# Altium footprint library T-Type Converter.PcbLib: 34 footprints (part 2 of 3)
Each footprint in its own frame and in the unit in brackets; x right, y up, seen from the top. Pads: shape width x height; smd on the part's side, far side on the other; paste and mask are expansions set on the pad; w line width, h text height; cw(c..) or ccw(c..) is an arc to the next point about the centre after c.
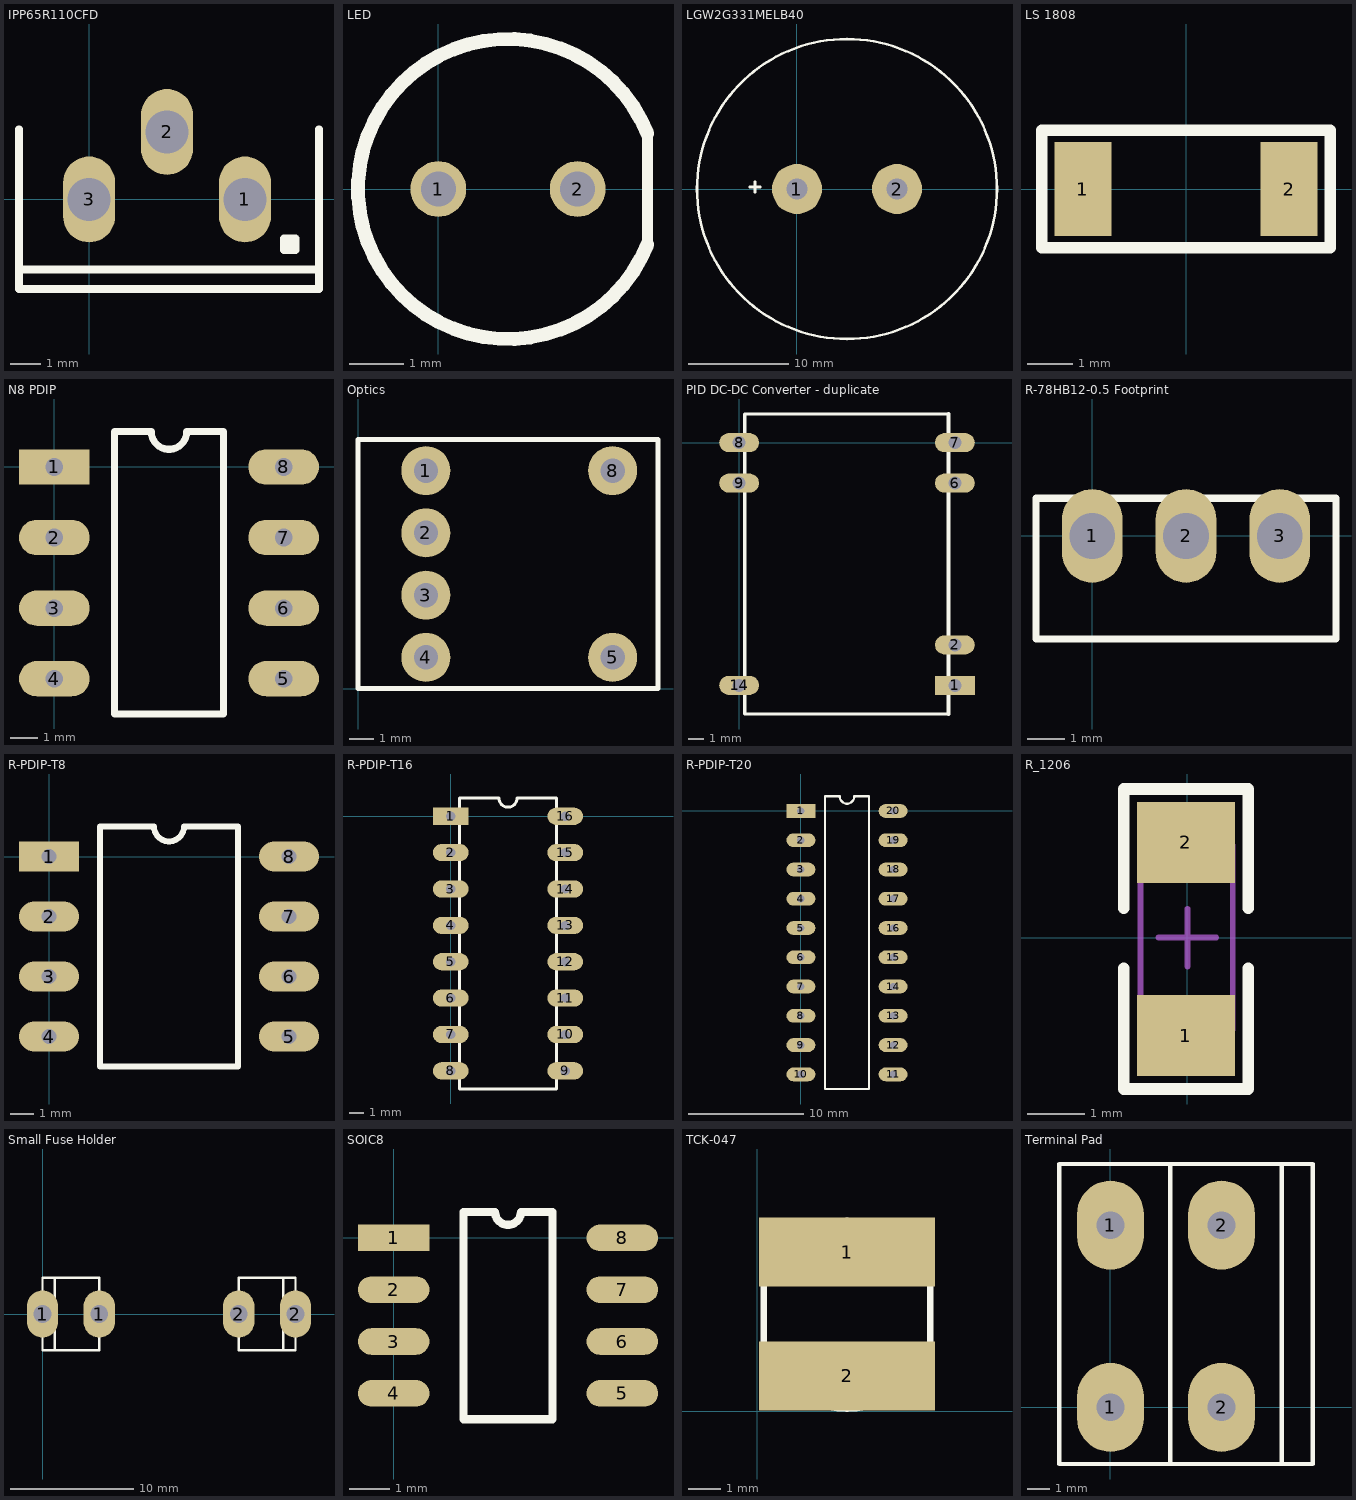
[diagram p1: the footprints below, top view; thin cyan lines are the x and y axes]

## IPP65R110CFD [mm]
pads (3):
  oval 1.7x2.8 hole 1.4: 1(5.08,0) 2(2.54,2.2) 3(0,0)
Top Overlay:
  lines w0.254: -2.286,-2.286 7.493,-2.286 ; -2.286,2.286 -2.286,-1.778 -2.286,-2.921 7.493,-2.921 7.493,-1.651 7.493,2.286 ; 6.35,-1.27 6.731,-1.27 6.731,-1.651 ; 6.35,-1.27 6.35,-1.651 6.731,-1.651 ; 6.35,-1.27 6.604,-1.524 6.731,-1.651

## LED [mil] "LED"
pads (2):
  round 40 hole 25: 1(0,0) 2(100,0)
Top Overlay:
  lines w7.87: 150,-40 150,40
  lines w10: 150,-40 cw(c50,0) 150,40

## LGW2G331MELB40 [mm] "Capacitor"
height 40
pads (2):
  round 5 hole 2.108: 1(0,0) 2(10,0)
Top Overlay:
  circle w0.254: c5,0 r15
  lines w0.254: -4.708,0.2 -3.692,0.2 ; -4.2,-0.308 -4.2,0.708

## LS 1808 [mil]
pads (2):
  rect 50x82 smd: 1(-90,0) 2(90,0)
Top Overlay:
  lines w10: -125.98,-51.18 -125.98,0 -125.98,51.18 125.98,51.18 125.98,-51.18 -125.98,-51.18

## N8 PDIP [mil]
pads (8):
  rect 100x50 hole 25: 1(0,0)
  oval 100x50 hole 25: 2(0,-100) 3(0,-200) 4(0,-300) 5(325,-300) 6(325,-200) 7(325,-100) 8(325,0)
Top Overlay:
  lines w10: 85,-350 85,50 137.5,50 ccw(c162.5,50) 187.5,50 240,50 240,-350 85,-350

## Optics [mm]
pads (6):
  round 2 hole 0.991: 1(2.77,8.89) 2(2.77,6.35) 3(2.77,3.81) 4(2.77,1.27) 5(10.39,1.27) 8(10.39,8.89)
Top Overlay:
  lines w0.2: 0,0 12.24,0 12.24,10.16 0,10.16 0,0

## PID DC-DC Converter - duplicate [mm]
pads (7):
  rect 2.5x1.2 hole 0.813: 1(13.55,-15.24)
  oval 2.5x1.2 hole 0.813: 2(13.55,-12.7) 6(13.55,-2.54) 7(13.55,0) 8(0,0) 9(0,-2.54) 14(0,-15.24)
Top Overlay:
  lines w0.2: 13.15,-17.04 0.35,-17.04 0.35,1.8 13.15,1.8
  lines w0.254: 13.15,-17.04 13.15,1.8

## R-78HB12-0.5 Footprint [mil] "Power Supply Footprint"
pads (3):
  oval 65x100 hole 49: 1(0,0) 2(100,0) 3(200,0)
Top Overlay:
  lines w7.87: -60,-110 -60,40 260,40 260,-110 -60,-110

## R-PDIP-T8 [mil]
pads (8):
  rect 100x50 hole 25: 1(0,0)
  oval 100x50 hole 25: 2(0,-100) 3(0,-200) 4(0,-300) 5(400,-300) 6(400,-200) 7(400,-100) 8(400,0)
Top Overlay:
  lines w10: 85,-350 85,50 175,50 ccw(c200,50) 225,50 315,50 315,-350 85,-350

## R-PDIP-T16 [mm]
pads (16):
  rect 2.5x1.2 hole 0.635: 1(0,0)
  oval 2.5x1.2 hole 0.635: 2(0,-2.54) 3(0,-5.08) 4(0,-7.62) 5(0,-10.16) 6(0,-12.7) 7(0,-15.24) 8(0,-17.78) 9(8,-17.78) 10(8,-15.24) 11(8,-12.7) 12(8,-10.16) 13(8,-7.62) 14(8,-5.08) 15(8,-2.54) 16(8,0)
Top Overlay:
  lines w0.2: 0.61,-19.05 0.61,1.27 3.365,1.27 ccw(c4,1.27) 4.635,1.27 7.39,1.27 7.39,-19.05 0.61,-19.05

## R-PDIP-T20 [mm]
pads (20):
  rect 2.5x1.2 hole 0.635: 1(0,0)
  oval 2.5x1.2 hole 0.635: 2(0,-2.54) 3(0,-5.08) 4(0,-7.62) 5(0,-10.16) 6(0,-12.7) 7(0,-15.24) 8(0,-17.78) 9(0,-20.32) 10(0,-22.86) 11(8,-22.86) 12(8,-20.32) 13(8,-17.78) 14(8,-15.24) 15(8,-12.7) 16(8,-10.16) 17(8,-7.62) 18(8,-5.08) 19(8,-2.54) 20(8,0)
Top Overlay:
  lines w0.2: 2.085,-24.13 2.085,1.27 3.365,1.27 ccw(c4,1.27) 4.635,1.27 5.915,1.27 5.915,-24.13 2.085,-24.13

## R_1206 [mm]
pads (2):
  rect 1.7x1.4 smd: 1(-0.025,-1.7) 2(-0.025,1.65)
Top Overlay:
  lines w0.2: -1.1,-0.533 -1.1,-2.625 1.05,-2.625 1.05,-0.533 ; -1.1,0.508 -1.1,2.575 1.05,2.575 1.05,0.508
Mechanical 15:
  lines w0.1: -0.5,0 0.5,0 ; 0,-0.5 0,0.5 ; -0.813,-1.6 -0.813,1.6 0.787,1.6 0.787,-1.6 -0.813,-1.6
3D body: height 0.8, standoff 0, extent -0.8,-1.6 0.8,1.6
3D body: height 1.1, standoff 0, extent -0.813,-1.676 0.787,-1.422
3D body: height 1.1, standoff 0, extent -0.813,1.422 0.787,1.676

## Small Fuse Holder [mil]
pads (4):
  oval 100x150 hole 57: 1(0,0) 1(181,0) 2(626,0) 2(807,0)
Top Overlay:
  lines w7.87: 39.37,-115 39.37,115 ; 767.72,-115 767.72,115 ; 0,-115 181,-115 181,115 0,115 0,-115 ; 626,-115 807,-115 807,115 626,115 626,-115

## SOIC8 [mm]
pads (8):
  rect 1.75x0.65 smd: 1(0,0)
  oval 1.75x0.65 smd: 2(0,-1.27) 3(0,-2.54) 4(0,-3.81) 5(5.6,-3.81) 6(5.6,-2.54) 7(5.6,-1.27) 8(5.6,0)
Top Overlay:
  lines w0.2: 1.71,-4.445 3.89,-4.445 3.89,0.635 3.117,0.635 cw(c2.8,0.635) 2.482,0.635 1.71,0.635 1.71,-4.445

## TCK-047 [mm]
pads (2):
  rect 5.5x2.15 smd: 1(2.8,4.95) 2(2.8,1.1)
Top Overlay:
  lines w0.2: 0.2,1.625 0.2,4.375 ; 5.4,1.625 5.4,4.375
  lines w0.254: 0.247,1.625 ccw(c2.8,3) 5.353,1.625 ; 0.247,4.375 cw(c2.8,3) 5.353,4.375

## Terminal Pad [mm]
height 14.4
pads (4):
  oval 3x4 hole 1.245: 1(0,0) 1(0,8.2) 2(5,0) 2(5,8.2)
Top Overlay:
  lines w0.2: 2.7,-2.55 2.7,10.95 ; 7.7,-2.55 9.1,-2.55 9.1,10.95 7.7,10.95 ; 7.7,-2.55 -2.3,-2.55 -2.3,10.95 7.7,10.95 ; 7.7,-2.55 7.7,10.95